# Altium footprint library as14120.PcbLib: 34 footprints (part 3 of 3)
Each footprint in its own frame and in the unit in brackets; x right, y up, seen from the top. Pads: shape width x height; smd on the part's side, far side on the other; paste and mask are expansions set on the pad; w line width, h text height; cw(c..) or ccw(c..) is an arc to the next point about the centre after c.
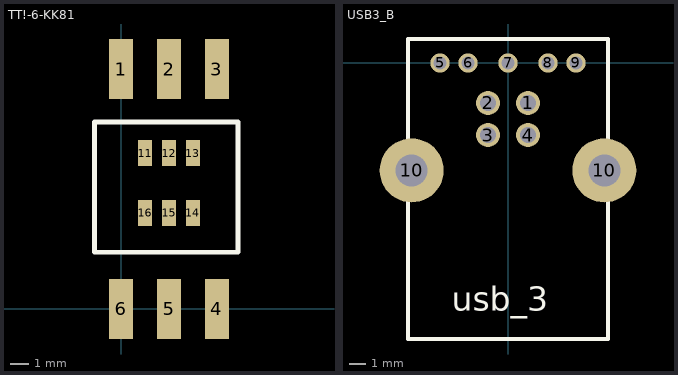
[diagram p2: the footprints below, top view; thin cyan lines are the x and y axes]

## TT!-6-KK81 [mm]
height 5.84
pads (12):
  rect 1.27x3.18 smd: 1(0,12.7) 2(2.54,12.7) 3(5.08,12.7) 4(5.08,0) 5(2.54,0) 6(0,0)
  rect 0.76x1.4 smd: 11(1.27,8.255) 12(2.54,8.255) 13(3.81,8.255) 14(3.81,5.08) 15(2.54,5.08) 16(1.27,5.08)
Top Overlay:
  lines w0.254: -1.4,3 6.2,3 6.2,9.9 -1.4,9.9 -1.4,3

## USB3_B [mm]
height 10.5
pads (11):
  round 1.5 hole 1: 1(1.25,-2.5) 2(-1.25,-2.5) 3(-1.25,-4.5) 4(1.25,-4.5)
  round 1.2 hole 0.8: 5(-4.25,0) 6(-2.5,0) 7(0,0) 8(2.5,0) 9(4.25,0)
  round 4 hole 2: 10(-6.02,-6.71) 10(6.02,-6.71)
Top Overlay:
  lines w0.254: -6.25,-17.25 -6.25,-2 -6.25,1.5 6.25,1.5 6.25,-2 6.25,-17.25 -6.25,-17.25
  text "usb_3" at -3.5,-15.5 h1.5
3D body: height 11, standoff -3.64, extent -7.399,-16.7 7.397,-0.2